# EAGLE library part MKR1000 (library IAD-Library)
The Arduino MKR1000.
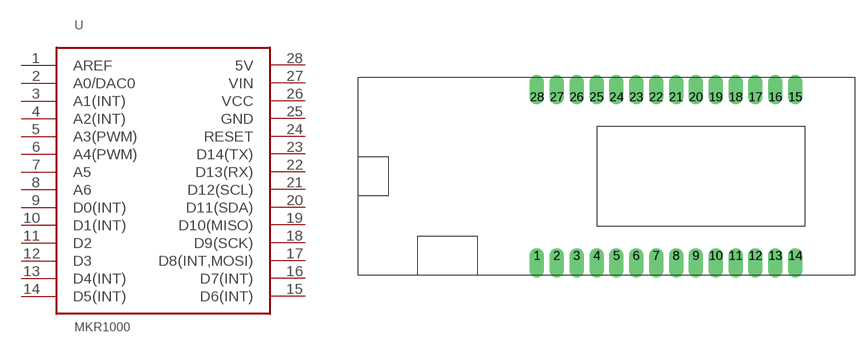
[diagram p3: symbol with the pads of MKR1000-SOCKET; footprint MKR1000-SOCKET]

Designator prefix -

## MKR1000  [MKR1000-SOCKET]
1  AREF
2  A0/DAC0
3  A1(INT)
4  A2(INT)
5  A3(PWM)
6  A4(PWM)
7  A5
8  A6
9  D0(INT)
10  D1(INT)
11  D2
12  D3
13  D4(INT)
14  D5(INT)
15  D6(INT)
16  D7(INT)
17  D8(INT,MOSI)
18  D9(SCK)
19  D10(MISO)
20  D11(SDA)
21  D12(SCL)
22  D13(RX)
23  D14(TX)
24  RESET
25  GND
26  VCC
27  VIN
28  5V

## Footprint MKR1000-SOCKET (pad centres in mm)
The Arduino MKR1000 Socket.
drill 1.016 pad 1.88 offset: 1 -16.51,-10.16; 2 -13.97,-10.16; 3 -11.43,-10.16; 4 -8.89,-10.16; 5 -6.35,-10.16; 6 -3.81,-10.16; 7 -1.27,-10.16; 8 1.27,-10.16; 9 3.81,-10.16; 10 6.35,-10.16; 11 8.89,-10.16; 12 11.43,-10.16; 13 13.97,-10.16; 14 16.51,-10.16; 15 16.51,10.16; 16 13.97,10.16; 17 11.43,10.16; 18 8.89,10.16; 19 6.35,10.16; 20 3.81,10.16; 21 1.27,10.16; 22 -1.27,10.16; 23 -3.81,10.16; 24 -6.35,10.16; 25 -8.89,10.16; 26 -11.43,10.16; 27 -13.97,10.16; 28 -16.51,10.16